# Altium schematic symbol library solderpad.SchLib: 1 symbol
Pins are listed as number, name and electrical type; pins without a type are passive.

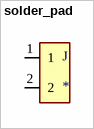
[diagram p0: symbol solder_pad]

## solder_pad
designator J
footprint SOLDER_pad
pins: 1, 2